# Altium schematic symbol library MAC4DHM.Schlib: 1 symbol
Pins are listed as number, name and electrical type; pins without a type are passive.

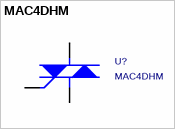
[diagram p0: symbol MAC4DHM]

## MAC4DHM
designator U?
TRIAC
pins: 1 ANODE2, 2 ANODE1, 3 GATE